# Altium integrated library Texas Instruments Interface I2C.IntLib: 424 symbols (part 23 of 23)
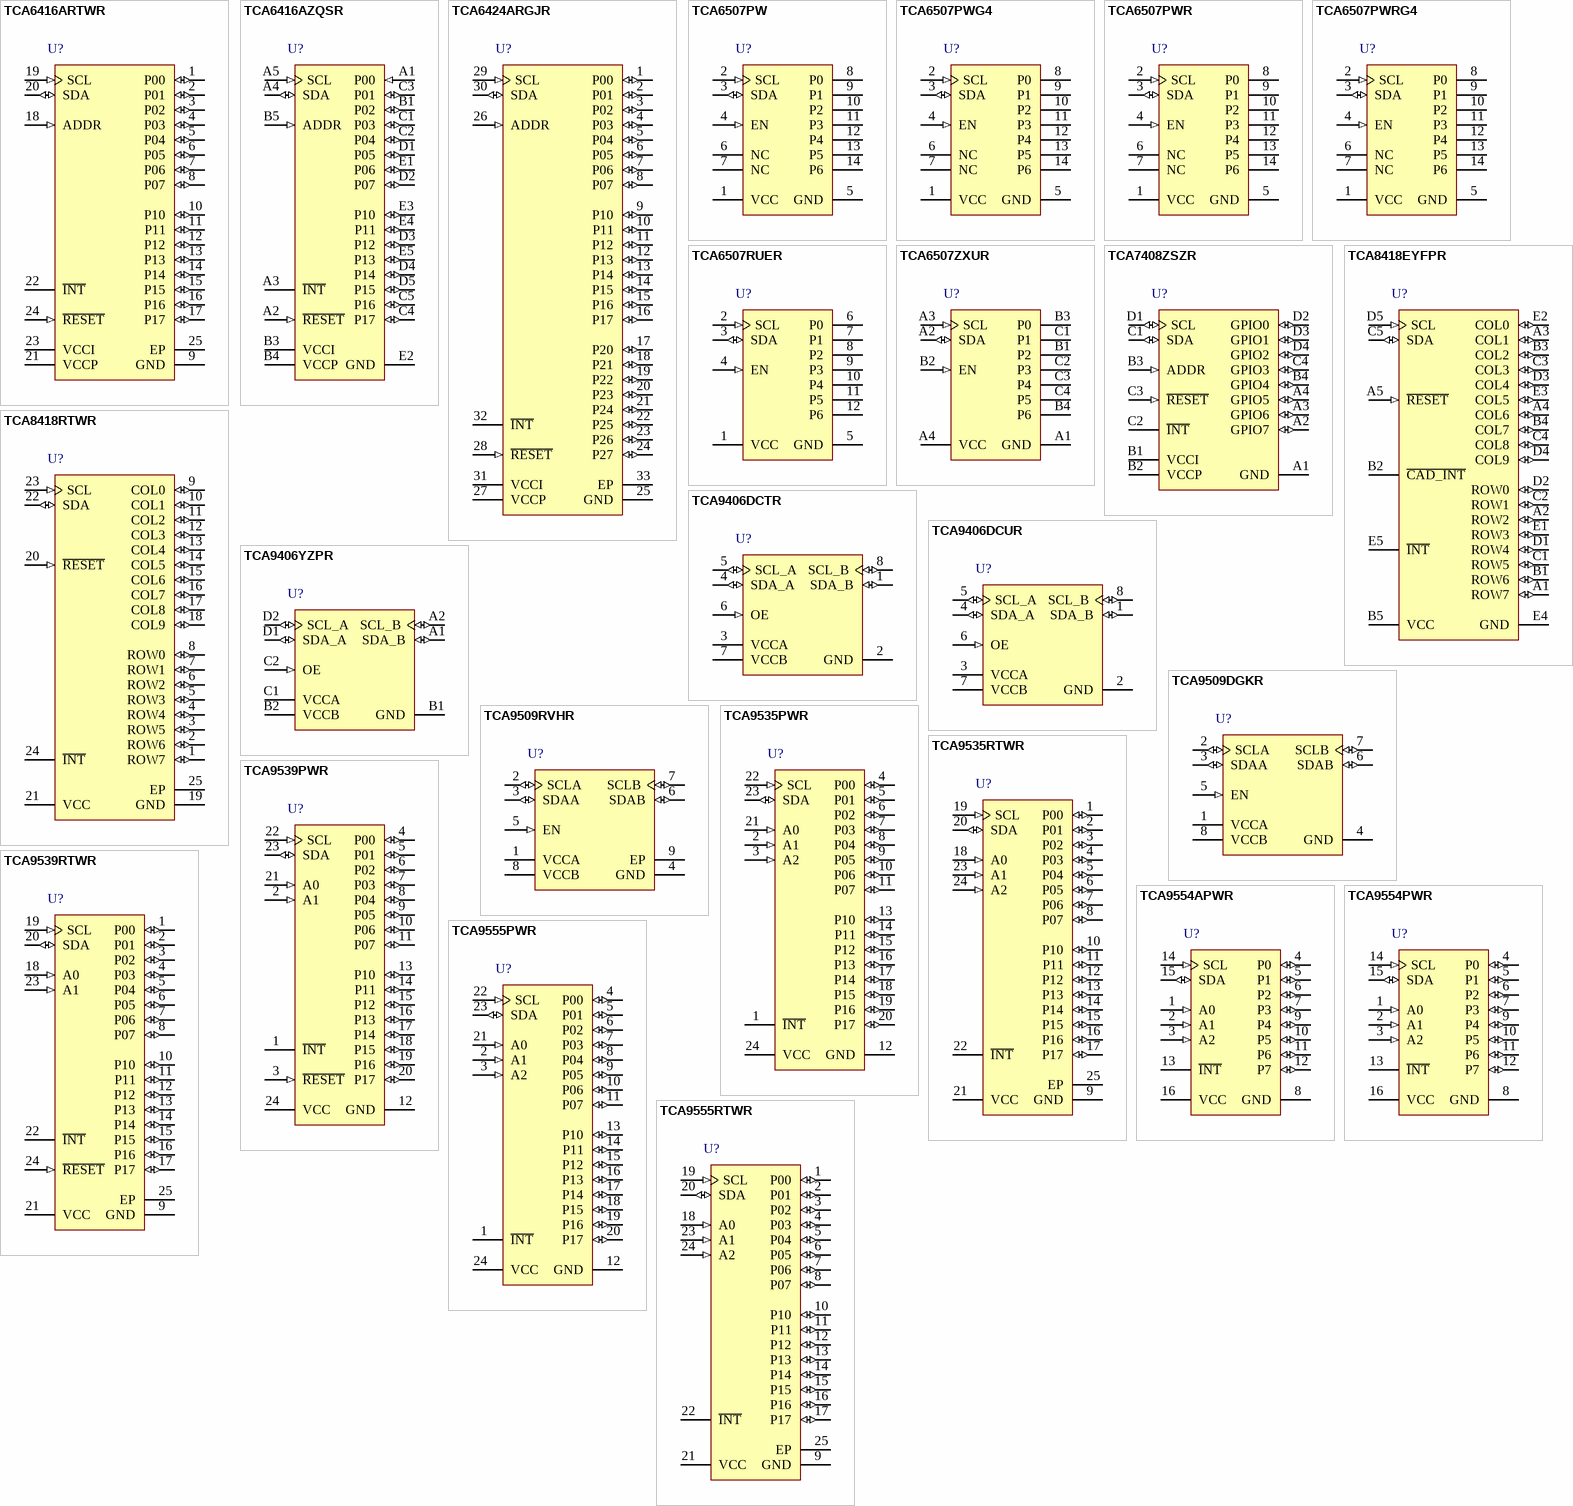
[diagram p35: symbols TCA6416ARTWR to TCA9555RTWR]

## TCA9509RVHR
designator U?
Level Translating I2C Bus Repeater, 2.7 to 5.5 V, -40 to 85 degC, 8-pin X2QFN (RVH), Green (RoHS & no Sb/Br); Manufacturer: Texas Instruments; PartNumber: TCA9509RVHR; SubFamily: I2C Hub, Buffer, Repeater; fSCLK(Max)(MHz): 0.4; VCC(Max)(V): 5.5; VCC(Min)(V): 2.7; Max Frequency(kHz): 400; Open Drain I/O Type: Yes; DatasheetVersion: SCPS225B; PackageVersion: revB, Jan-2011; PackageReference: RVH8-400X400TP; PackageDescription: 8-Pin Plastic Quad Flatpack No-Lead, 1.6 x 1.6 mm Body, 0.5 mm Pitch; Supplier 1: Digi-Key; Supplier Part Number 1: 296-29057-2-ND; Supplier 2: Digi-Key; Supplier Part Number 2: 296-29057-1-ND; Supplier 3: Digi-Key; Supplier Part Number 3: 296-29057-6-ND; Supplier 4: Farnell; Supplier Part Number 4: 1926947; Supplier 5: Newark; Supplier Part Number 5: 51T4809; Supplier 6: Newark; Supplier Part Number 6: 58T2293; Supplier 7: Mouser; Supplier Part Number 7: 595-TCA9509RVHR; Eco-Plan: Green (RoHS & no Sb/Br); Vcc range(V): 2.7 to 5.5; Master Side I2C Bus Capacitance Supported(pF): 400; Slave Side I2C Bus Capacitance Supported(pF): 400; Enable Pin: Yes; Mounting Technology: Surface Mount; Code_JEDEC: MO-255; ComponentLink1Description: Datasheet; ComponentLink1URL: http://www.ti.com/general/docs/lit/getliterature.tsp?genericPartNumber=TCA9509&fileType=pdf; ComponentLink2Description: Package Specification; ComponentLink2URL: http://www.ti.com/litv/pdf/mpds028d
footprint RVH8-400X400TP_V (PQFN, 8-Leads, Body 1.6x1.6mm, Pitch 0.5mm, Thermal Pad 0.4x0.4mm)
footprint RVH8-400X400TP_N (QFN, 8-Leads, Body 1.6x1.6mm, Pitch 0.5mm, Thermal Pad 0.4x0.4mm, IPC Medium Density)
footprint RVH8-400X400TP_L (QFN, 8-Leads, Body 1.6x1.6mm, Pitch 0.5mm, Thermal Pad 0.4x0.4mm, IPC High Density)
footprint RVH8-400X400TP_M (QFN, 8-Leads, Body 1.6x1.6mm, Pitch 0.5mm, Thermal Pad 0.4x0.4mm, IPC Low Density)
pins: 1 VCCA (power) "A-side supply voltage (0.9V to VCCB - 1V)", 2 SCLA (io) "Serial clock bus, A side.", 3 SDAA (io) "Serial data bus, A side.", 4 GND (power) "Supply ground", 5 EN (in) "Active-high repeater enable input", 6 SDAB (io) "Serial data bus, B side. Connect to VCCB through a pullup resistor.", 7 SCLB (io) "Serial clock bus, B side. Connect to VCCB through a pullup resistor.", 8 VCCB (power) "B-side and device supply voltage (2.7 V to 5.5 V)", 9 EP "Exposed Pad"

## TCA9535PWR
designator U?
Remote 16-Bit I2C and SMBus, Low-Power I/O Expander with Interrupt Output and Config Register, 1.65 to 5.5 V, -40 to 85 degC, 24-pin TSSOP (PW), Green (RoHS & no Sb/Br); Manufacturer: Texas Instruments; PartNumber: TCA9535PWR; SubFamily: I2C IO Expander; Interrupt Output: Yes; Max Frequency(kHz): 400; I2C Address: 0100 xxx; # of I/Os: 16; DatasheetVersion: SCPS201A; PackageVersion: revG, Feb-2011; PackageReference: PW24; PackageDescription: 24-Pin Thin Small Outline Package 0.65 mm Pitch; Supplier 1: Digi-Key; Supplier Part Number 1: 296-25129-2-ND; Supplier 2: Digi-Key; Supplier Part Number 2: 296-25129-1-ND; Supplier 3: Digi-Key; Supplier Part Number 3: 296-25129-6-ND; Supplier 4: Newark; Supplier Part Number 4: 50R7922; Supplier 5: Mouser; Supplier Part Number 5: 595-TCA9535PWR; Eco-Plan: Green (RoHS & no Sb/Br); Vcc range(V): 1.65 to 5.5; Low Power: Yes; Configuration Registers: Yes; 5V Tolerant I/O: Yes; Push-Pull I/O Type: Yes; Mounting Technology: Surface Mount; Code_JEDEC: MO-153; ComponentLink1Description: Datasheet; ComponentLink1URL: http://www.ti.com/general/docs/lit/getliterature.tsp?genericPartNumber=TCA9535&fileType=pdf; ComponentLink2Description: Package Specification; ComponentLink2URL: http://www.ti.com/litv/pdf/mpds177g
footprint PW24_N (TSOP, 24-Leads, Body 7.8x4.4mm, Pitch 0.65mm, IPC Medium Density)
footprint PW24_L (TSOP, 24-Leads, Body 7.8x4.4mm, Pitch 0.65mm, IPC High Density)
footprint PW24_M (TSOP, 24-Leads, Body 7.8x4.4mm, Pitch 0.65mm, IPC Low Density)
pins: 1 ~{INT} (oc) "Interrupt output. Connect to VCC through a pullup resistor.", 2 A1 (in) "Address input. Connect directly to VCC or ground.", 3 A2 (in) "Address input. Connect directly to VCC or ground.", 4 P00 (io) "P-port input/output. Push-pull design structure. At power-on,P0 is configured as an input.", 5 P01 (io) "P-port input/output. Push-pull design structure. At power-on,P1 is configured as an input.", 6 P02 (io) "P-port input/output. Push-pull design structure. At power-on,P2 is configured as an input.", 7 P03 (io) "P-port input/output. Push-pull design structure. At power-on,P3 is configured as an input.", 8 P04 (io) "P-port input/output. Push-pull design structure. At power-on,P4 is configured as an input.", 9 P05 (io) "P-port input/output. Push-pull design structure. At power-on,P5 is configured as an input.", 10 P06 (io) "P-port input/output. Push-pull design structure. At power-on,P6 is configured as an input.", 11 P07 (io) "P-port input/output. Push-pull design structure. At power-on,P7 is configured as an input.", 12 GND (power) "Ground", 13 P10 (io) "P-port input/output. Push-pull design structure. At power-on,P10 is configured as an input.", 14 P11 (io) "P-port input/output. Push-pull design structure. At power-on,P11 is configured as an input.", 15 P12 (io) "P-port input/output. Push-pull design structure. At power-on,P12 is configured as an input.", 16 P13 (io) "P-port input/output. Push-pull design structure. At power-on,P13 is configured as an input.", 17 P14 (io) "P-port input/output. Push-pull design structure. At power-on,P14 is configured as an input.", 18 P15 (io) "P-port input/output. Push-pull design structure. At power-on,P15 is configured as an input.", 19 P16 (io) "P-port input/output. Push-pull design structure. At power-on,P16 is configured as an input.", 20 P17 (io) "P-port input/output. Push-pull design structure. At power-on,P17 is configured as an input.", 21 A0 (in) "Address input. Connect directly to VCC or ground.", 22 SCL (in) "Serial clock bus. Connect to VCC through a pullup resistor.", 23 SDA (io) "Serial data bus. Connect to VCC through a pullup resistor.", 24 VCC (power) "Supply voltage"

## TCA9535RTWR
designator U?
Remote 16-Bit I2C and SMBus, Low-Power I/O Expander with Interrupt Output and Config Register, 1.65 to 5.5 V, -40 to 85 degC, 24-pin QFN (RTW), Green (RoHS & no Sb/Br); Manufacturer: Texas Instruments; PartNumber: TCA9535RTWR; SubFamily: I2C IO Expander; Interrupt Output: Yes; Max Frequency(kHz): 400; I2C Address: 0100 xxx; # of I/Os: 16; DatasheetVersion: SCPS201A; PackageVersion: Jul-2004; PackageReference: RTW24-2450X2450TP; PackageDescription: 24-Lead Plastic Quad FlatPack, No-Lead, 4x4x0.8mm Body [WQFN]; Supplier 1: Digi-Key; Supplier Part Number 1: 296-25156-2-ND; Supplier 2: Digi-Key; Supplier Part Number 2: 296-25156-1-ND; Supplier 3: Digi-Key; Supplier Part Number 3: 296-25156-6-ND; Supplier 4: Newark; Supplier Part Number 4: 50R7923; Supplier 5: Mouser; Supplier Part Number 5: 595-TCA9535RTWR; Eco-Plan: Green (RoHS & no Sb/Br); Vcc range(V): 1.65 to 5.5; Low Power: Yes; Configuration Registers: Yes; 5V Tolerant I/O: Yes; Push-Pull I/O Type: Yes; Mounting Technology: Surface Mount; Code_JEDEC: MO-220; ComponentLink1Description: Datasheet; ComponentLink1URL: http://www.ti.com/general/docs/lit/getliterature.tsp?genericPartNumber=TCA9535&fileType=pdf
footprint RTW24-2450X2450TP (QFN, 24-Leads, Body 4x4mm, Pitch 0.5mm, Thermal Pad 2.45x2.45mm, TI Recommended)
pins: 1 P00 (io) "P-port input/output. Push-pull design structure. At power-on, P00 is configured as an input.", 2 P01 (io) "P-port input/output. Push-pull design structure. At power-on, P01 is configured as an input.", 3 P02 (io) "P-port input/output. Push-pull design structure. At power-on, P02 is configured as an input.", 4 P03 (io) "P-port input/output. Push-pull design structure. At power-on, P03 is configured as an input.", 5 P04 (io) "P-port input/output. Push-pull design structure. At power-on, P04 is configured as an input.", 6 P05 (io) "P-port input/output. Push-pull design structure. At power-on, P05is configured as an input.", 7 P06 (io) "P-port input/output. Push-pull design structure. At power-on, P06 is configured as an input.", 8 P07 (io) "P-port input/output. Push-pull design structure. At power-on, P07 is configured as an input.", 9 GND (power) "Ground", 10 P10 (io) "P-port input/output. Push-pull design structure. At power-on, P10 is configured as an input.", 11 P11 (io) "P-port input/output. Push-pull design structure. At power-on, P11 is configured as an input.", 12 P12 (io) "P-port input/output. Push-pull design structure. At power-on, P12 is configured as an input.", 13 P13 (io) "P-port input/output. Push-pull design structure. At power-on, P13 is configured as an input.", 14 P14 (io) "P-port input/output. Push-pull design structure. At power-on, P14 is configured as an input.", 15 P15 (io) "P-port input/output. Push-pull design structure. At power-on, P15 is configured as an input.", 16 P16 (io) "P-port input/output. Push-pull design structure. At power-on, P16 is configured as an input.", 17 P17 (io) "P-port input/output. Push-pull design structure. At power-on, P17 is configured as an input.", 18 A0 (in) "Address input. Connect directly to VCC or ground.", 19 SCL (in) "Serial clock bus. Connect to VCC through a pullup resistor.", 20 SDA (io) "Serial data bus. Connect to VCC through a pullup resistor.", 21 VCC (power) "Supply voltage", 22 ~{INT} (oc) "Interrupt output. Connect to VCC through a pullup resistor.", 23 A1 (in) "Address input. Connect directly to VCC or ground.", 24 A2 (in) "Address input. Connect directly to VCC or ground.", 25 EP "Exposed thermal pad"

## TCA9539PWR
designator U?
Remote 16-Bit I2C and SMBus, Low-Power I/O Expander with Interrupt Output, Reset & Config. Register, 1.65 to 5.5 V, -40 to 85 degC, 24-pin TSSOP (PW), Green (RoHS & no Sb/Br); Manufacturer: Texas Instruments; PartNumber: TCA9539PWR; SubFamily: I2C IO Expander; Interrupt Output: Yes; Max Frequency(kHz): 400; I2C Address: 1110 1xx; # of I/Os: 16; DatasheetVersion: SCPS202A; PackageVersion: revG, Feb-2011; PackageReference: PW24; PackageDescription: 24-Pin Thin Small Outline Package 0.65 mm Pitch; Supplier 1: Digi-Key; Supplier Part Number 1: 296-25130-2-ND; Supplier 2: Digi-Key; Supplier Part Number 2: 296-25130-1-ND; Supplier 3: Digi-Key; Supplier Part Number 3: 296-25130-6-ND; Supplier 4: Newark; Supplier Part Number 4: 50R7924; Supplier 5: Mouser; Supplier Part Number 5: 595-TCA9539PWR; Eco-Plan: Green (RoHS & no Sb/Br); Reset Input: Yes; Vcc range(V): 1.65 to 5.5; Low Power: Yes; Configuration Registers: Yes; 5V Tolerant I/O: Yes; Push-Pull I/O Type: Yes; Mounting Technology: Surface Mount; Code_JEDEC: MO-153; ComponentLink1Description: Datasheet; ComponentLink1URL: http://www.ti.com/general/docs/lit/getliterature.tsp?genericPartNumber=TCA9539&fileType=pdf; ComponentLink2Description: Package Specification; ComponentLink2URL: http://www.ti.com/litv/pdf/mpds177g
footprint PW24_N (TSOP, 24-Leads, Body 7.8x4.4mm, Pitch 0.65mm, IPC Medium Density)
footprint PW24_L (TSOP, 24-Leads, Body 7.8x4.4mm, Pitch 0.65mm, IPC High Density)
footprint PW24_M (TSOP, 24-Leads, Body 7.8x4.4mm, Pitch 0.65mm, IPC Low Density)
pins: 1 ~{INT} (oc) "Interrupt output. Connect to VCC through a pullup resistor.", 2 A1 (in) "Address input. Connect directly to VCC or ground.", 3 ~{RESET} (in) "Active-low reset input. Connect to VCC  through a pullup resistor, if no active connection is used.", 4 P00 (io) "P-port input/output. Push-pull design structure. At power-on, P00 is configured as an input.", 5 P01 (io) "P-port input/output. Push-pull design structure. At power-on, P01 is configured as an input.", 6 P02 (io) "P-port input/output. Push-pull design structure. At power-on, P02 is configured as an input.", 7 P03 (io) "P-port input/output. Push-pull design structure. At power-on, P03 is configured as an input.", 8 P04 (io) "P-port input/output. Push-pull design structure. At power-on, P04 is configured as an input.", 9 P05 (io) "P-port input/output. Push-pull design structure. At power-on, P05is configured as an input.", 10 P06 (io) "P-port input/output. Push-pull design structure. At power-on, P06 is configured as an input.", 11 P07 (io) "P-port input/output. Push-pull design structure. At power-on, P07 is configured as an input.", 12 GND (power) "Ground", 13 P10 (io) "P-port input/output. Push-pull design structure. At power-on, P10 is configured as an input.", 14 P11 (io) "P-port input/output. Push-pull design structure. At power-on, P11 is configured as an input.", 15 P12 (io) "P-port input/output. Push-pull design structure. At power-on, P12 is configured as an input.", 16 P13 (io) "P-port input/output. Push-pull design structure. At power-on, P13 is configured as an input.", 17 P14 (io) "P-port input/output. Push-pull design structure. At power-on, P14 is configured as an input.", 18 P15 (io) "P-port input/output. Push-pull design structure. At power-on, P15 is configured as an input.", 19 P16 (io) "P-port input/output. Push-pull design structure. At power-on, P16 is configured as an input.", 20 P17 (io) "P-port input/output. Push-pull design structure. At power-on, P17 is configured as an input.", 21 A0 (in) "Address input. Connect directly to VCC or ground.", 22 SCL (in) "Serial clock bus. Connect to VCC through a pullup resistor.", 23 SDA (io) "Serial data bus. Connect to VCC through a pullup resistor.", 24 VCC (power) "Supply voltage"

## TCA9539RTWR
designator U?
Remote 16-Bit I2C and SMBus, Low-Power I/O Expander with Interrupt Output, Reset & Config. Register, 1.65 to 5.5 V, -40 to 85 degC, 24-pin QFN (RTW), Green (RoHS & no Sb/Br); Manufacturer: Texas Instruments; PartNumber: TCA9539RTWR; SubFamily: I2C IO Expander; Interrupt Output: Yes; Max Frequency(kHz): 400; I2C Address: 1110 1xx; # of I/Os: 16; DatasheetVersion: SCPS202A; PackageVersion: Jul-2004; PackageReference: RTW24-2450X2450TP; PackageDescription: 24-Lead Plastic Quad FlatPack, No-Lead, 4x4x0.8mm Body [WQFN]; Supplier 1: Digi-Key; Supplier Part Number 1: 296-25157-2-ND; Supplier 2: Digi-Key; Supplier Part Number 2: 296-25157-1-ND; Supplier 3: Digi-Key; Supplier Part Number 3: 296-25157-6-ND; Supplier 4: Newark; Supplier Part Number 4: 50R7925; Supplier 5: Mouser; Supplier Part Number 5: 595-TCA9539RTWR; Eco-Plan: Green (RoHS & no Sb/Br); Reset Input: Yes; Vcc range(V): 1.65 to 5.5; Low Power: Yes; Configuration Registers: Yes; 5V Tolerant I/O: Yes; Push-Pull I/O Type: Yes; Mounting Technology: Surface Mount; Code_JEDEC: MO-220; ComponentLink1Description: Datasheet; ComponentLink1URL: http://www.ti.com/general/docs/lit/getliterature.tsp?genericPartNumber=TCA9539&fileType=pdf
footprint RTW24-2450X2450TP (QFN, 24-Leads, Body 4x4mm, Pitch 0.5mm, Thermal Pad 2.45x2.45mm, TI Recommended)
pins: 1 P00 (io) "P-port input/output. Push-pull design structure. At power-on, P00 is configured as an input.", 2 P01 (io) "P-port input/output. Push-pull design structure. At power-on, P01 is configured as an input.", 3 P02 (io) "P-port input/output. Push-pull design structure. At power-on, P02 is configured as an input.", 4 P03 (io) "P-port input/output. Push-pull design structure. At power-on, P03 is configured as an input.", 5 P04 (io) "P-port input/output. Push-pull design structure. At power-on, P04 is configured as an input.", 6 P05 (io) "P-port input/output. Push-pull design structure. At power-on, P05is configured as an input.", 7 P06 (io) "P-port input/output. Push-pull design structure. At power-on, P06 is configured as an input.", 8 P07 (io) "P-port input/output. Push-pull design structure. At power-on, P07 is configured as an input.", 9 GND (power) "Ground", 10 P10 (io) "P-port input/output. Push-pull design structure. At power-on, P10 is configured as an input.", 11 P11 (io) "P-port input/output. Push-pull design structure. At power-on, P11 is configured as an input.", 12 P12 (io) "P-port input/output. Push-pull design structure. At power-on, P12 is configured as an input.", 13 P13 (io) "P-port input/output. Push-pull design structure. At power-on, P13 is configured as an input.", 14 P14 (io) "P-port input/output. Push-pull design structure. At power-on, P14 is configured as an input.", 15 P15 (io) "P-port input/output. Push-pull design structure. At power-on, P15 is configured as an input.", 16 P16 (io) "P-port input/output. Push-pull design structure. At power-on, P16 is configured as an input.", 17 P17 (io) "P-port input/output. Push-pull design structure. At power-on, P17 is configured as an input.", 18 A0 (in) "Address input. Connect directly to VCC or ground.", 19 SCL (in) "Serial clock bus. Connect to VCC through a pullup resistor.", 20 SDA (io) "Serial data bus. Connect to VCC through a pullup resistor.", 21 VCC (power) "Supply voltage", 22 ~{INT} (oc) "Interrupt output. Connect to VCC through a pullup resistor.", 23 A1 (in) "Address input. Connect directly to VCC or ground.", 24 ~{RESET} (in) "Active-low reset input. Connect to VCC  through a pullup resistor, if no active connection is used.", 25 EP "Exposed thermal pad"

## TCA9554APWR
designator U?
Remote 8-Bit I2C and SMBus I/O Expander, 8 Outputs, 1.65 to 5.5 V, -40 to 85 degC, 16-pin TSSOP (PW), Green (RoHS & no Sb/Br); Manufacturer: Texas Instruments; PartNumber: TCA9554APWR; SubFamily: I2C IO Expander; No. of Outputs: 24; Interrupt Output: Yes; VCC(Min)(V): 1.65; VCC(Max)(V): 5.5; Max Frequency(kHz): 400; I2C Address: 0100 01x; DatasheetVersion: SCPS196; PackageVersion: revG, Feb-2011; PackageReference: PW16; PackageDescription: 16-Pin Plastic Thin Small Outline Package 5 x 4.4 mm Body ,0.65 mm Pitch; Supplier 1: Digi-Key; Supplier Part Number 1: 296-28120-2-ND; Supplier 2: Digi-Key; Supplier Part Number 2: 296-28120-1-ND; Supplier 3: Digi-Key; Supplier Part Number 3: 296-28120-6-ND; Supplier 4: Farnell; Supplier Part Number 4: 1864892; Supplier 5: Newark; Supplier Part Number 5: 25T0268; Supplier 6: Mouser; Supplier Part Number 6: 595-TCA9554APWR; Eco-Plan: Green (RoHS & no Sb/Br); Reset Input: Yes; # of I/Os: 24; Vcc range(V): 1.65 to 5.5; Low Power: Yes; Configuration Registers: Yes; 5V Tolerant I/O: Yes; Mounting Technology: Surface Mount; Code_JEDEC: MO-153; ComponentLink1Description: Datasheet; ComponentLink1URL: http://www.ti.com/general/docs/lit/getliterature.tsp?genericPartNumber=TCA9554A&fileType=pdf
footprint PW16_N (TSOP, 16-Leads, Body 5x4.4mm, Pitch 0.65mm, IPC Medium Density)
footprint PW16_L (TSOP, 16-Leads, Body 5x4.4mm, Pitch 0.65mm, IPC High Density)
footprint PW16_M (TSOP, 16-Leads, Body 5x4.4mm, Pitch 0.65mm, IPC Low Density)
pins: 1 A0 (in) "Address input. Connect directly to VCC or ground.", 2 A1 (in) "Address input. Connect directly to VCC or ground.", 3 A2 (in) "Address input. Connect directly to VCC or ground.", 4 P0 (io) "P-port input/output. Push-pull design structure. At power-on, P0 is configured as an input.", 5 P1 (io) "P-port input/output. Push-pull design structure. At power-on, P1 is  configured as an input.", 6 P2 (io) "P-port input/output. Push-pull design structure. At power-on, P2 is  configured as an input.", 7 P3 (io) "P-port input/output. Push-pull design structure. At power-on, P3is  configured as an input.", 8 GND (power) "Ground", 9 P4 (io) "P-port input/output. Push-pull design structure. At power-on, P4 is  configured as an input.", 10 P5 (io) "P-port input/output. Push-pull design structure. At power-on, P5 is  configured as an input.", 11 P6 (io) "P-port input/output. Push-pull design structure. At power-on, P6 is  configured as an input.", 12 P7 (io) "P-port input/output. Push-pull design structure. At power-on, P7 is  configured as an input.", 13 ~{INT} (oc) "Interrupt output. Connect to VCC through a pullup resistor.", 14 SCL (in) "Serial clock bus. Connect to VCC  through a pullup resistor.", 15 SDA (io) "Serial data  bus. Connect to VCC  through a pullup resistor.", 16 VCC (power) "Supply voltage"

## TCA9554PWR
designator U?
Remote 8-Bit I2C and SMBus I/O Expander, 1.65 to 5.5 V, -40 to 85 degC, 16-pin TSSOP (PW), Green (RoHS & no Sb/Br); Manufacturer: Texas Instruments; PartNumber: TCA9554PWR; SubFamily: I2C IO Expander; Interrupt Output: Yes; fSCLK(Max)(MHz): 401; VCC(Min)(V): 1.65; VCC(Max)(V): 5.5; Max Frequency(kHz): 400; I2C Address: 0100xxx; # of I/Os: 8; DatasheetVersion: SCPS233; PackageVersion: revG, Feb-2011; PackageReference: PW16; PackageDescription: 16-Pin Plastic Thin Small Outline Package 5 x 4.4 mm Body ,0.65 mm Pitch; Supplier 1: Digi-Key; Supplier Part Number 1: 296-30135-2-ND; Supplier 2: Digi-Key; Supplier Part Number 2: 296-30135-1-ND; Supplier 3: Digi-Key; Supplier Part Number 3: 296-30135-6-ND; Supplier 4: Newark; Supplier Part Number 4: 76T8038; Supplier 5: Mouser; Supplier Part Number 5: 595-TCA9554PWR; Eco-Plan: Green (RoHS & no Sb/Br); Vcc range(V): 1.65 to 5.5; Low Power: Yes; Configuration Registers: Yes; 5V Tolerant I/O: Yes; Mounting Technology: Surface Mount; Code_JEDEC: MO-153; ComponentLink1Description: Datasheet; ComponentLink1URL: http://www.ti.com/general/docs/lit/getliterature.tsp?genericPartNumber=TCA9554&fileType=pdf
footprint PW16_N (TSOP, 16-Leads, Body 5x4.4mm, Pitch 0.65mm, IPC Medium Density)
footprint PW16_L (TSOP, 16-Leads, Body 5x4.4mm, Pitch 0.65mm, IPC High Density)
footprint PW16_M (TSOP, 16-Leads, Body 5x4.4mm, Pitch 0.65mm, IPC Low Density)
pins: 1 A0 (in) "Address input. Connect directly to VCC or ground.", 2 A1 (in) "Address input. Connect directly to VCC or ground.", 3 A2 (in) "Address input. Connect directly to VCC or ground.", 4 P0 (io) "P-port input/output. Push-pull design structure. At power-on, P0 is configured as an input.", 5 P1 (io) "P-port input/output. Push-pull design structure. At power-on, P1 is configured as an input.", 6 P2 (io) "P-port input/output. Push-pull design structure. At power-on, P2 is configured as an input.", 7 P3 (io) "P-port input/output. Push-pull design structure. At power-on, P3 is configured as an input.", 8 GND (power) "Ground.", 9 P4 (io) "P-port input/output. Push-pull design structure. At power-on, P4 is configured as an input.", 10 P5 (io) "P-port input/output. Push-pull design structure. At power-on, P5 is configured as an input.", 11 P6 (io) "P-port input/output. Push-pull design structure. At power-on, P6 is configured as an input.", 12 P7 (io) "P-port input/output. Push-pull design structure. At power-on, P7 is configured as an input.", 13 ~{INT} (oc) "Interrupt output. Connect to VCC through a pullup resistor.", 14 SCL (in) "Serial clock bus. Connect to VCC through a pullup resistor.", 15 SDA (io) "Serial data bus. Connect to VCC through a pullup resistor.", 16 VCC (power) "Supply voltage."

## TCA9555PWR
designator U?
Remote 16-Bit I2C and SMBus I/O Expander with Interrupt Output and Configuration Registers, 1.65 to 5.5 V, -40 to 85 degC, 24-pin TSSOP (PW), Green (RoHS & no Sb/Br); Manufacturer: Texas Instruments; PartNumber: TCA9555PWR; SubFamily: I2C IO Expander; Interrupt Output: Yes; Max Frequency(kHz): 400; I2C Address: 0100 xxx; # of I/Os: 16; DatasheetVersion: SCPS200A; PackageVersion: revG, Feb-2011; PackageReference: PW24; PackageDescription: 24-Pin Thin Small Outline Package 0.65 mm Pitch; Supplier 1: Digi-Key; Supplier Part Number 1: 296-24827-2-ND; Supplier 2: Digi-Key; Supplier Part Number 2: 296-24827-1-ND; Supplier 3: Digi-Key; Supplier Part Number 3: 296-24827-6-ND; Supplier 4: Newark; Supplier Part Number 4: 24R9978; Supplier 5: Mouser; Supplier Part Number 5: 595-TCA9555PWR; Eco-Plan: Green (RoHS & no Sb/Br); Vcc range(V): 1.65 to 5.5; Configuration Registers: Yes; 5V Tolerant I/O: Yes; Push-Pull I/O Type: Yes; Mounting Technology: Surface Mount; Code_JEDEC: MO-153; ComponentLink1Description: Datasheet; ComponentLink1URL: http://www.ti.com/general/docs/lit/getliterature.tsp?genericPartNumber=TCA9555&fileType=pdf; ComponentLink2Description: Package Specification; ComponentLink2URL: http://www.ti.com/litv/pdf/mpds177g
footprint PW24_N (TSOP, 24-Leads, Body 7.8x4.4mm, Pitch 0.65mm, IPC Medium Density)
footprint PW24_L (TSOP, 24-Leads, Body 7.8x4.4mm, Pitch 0.65mm, IPC High Density)
footprint PW24_M (TSOP, 24-Leads, Body 7.8x4.4mm, Pitch 0.65mm, IPC Low Density)
pins: 1 ~{INT} (oc) "Interrupt output. Connect to VCC through a pullup resistor.", 2 A1 (in) "Address input 1. Connect directly to VCC or ground.", 3 A2 (in) "Address input 2.  Connect directly to VCC or ground.", 4 P00 (io) "P-port input/output. Push-pull design structure. At power-on, P00 is configured as an input.", 5 P01 (io) "P-port input/output. Push-pull design structure. At power-on, P01 is configured as an input.", 6 P02 (io) "P-port input/output. Push-pull design structure. At power-on, P02 is configured as an input.", 7 P03 (io) "P-port input/output. Push-pull design structure. At power-on, P03 is configured as an input.", 8 P04 (io) "P-port input/output. Push-pull design structure. At power-on, P04 is configured as an input.", 9 P05 (io) "P-port input/output. Push-pull design structure. At power-on, P05is configured as an input.", 10 P06 (io) "P-port input/output. Push-pull design structure. At power-on, P06 is configured as an input.", 11 P07 (io) "P-port input/output. Push-pull design structure. At power-on, P07 is configured as an input.", 12 GND (power) "Ground", 13 P10 (io) "P-port input/output. Push-pull design structure. At power-on, P10 is configured as an input.", 14 P11 (io) "P-port input/output. Push-pull design structure. At power-on, P11 is configured as an input.", 15 P12 (io) "P-port input/output. Push-pull design structure. At power-on, P12 is configured as an input.", 16 P13 (io) "P-port input/output. Push-pull design structure. At power-on, P13 is configured as an input.", 17 P14 (io) "P-port input/output. Push-pull design structure. At power-on, P14 is configured as an input.", 18 P15 (io) "P-port input/output. Push-pull design structure. At power-on, P15 is configured as an input.", 19 P16 (io) "P-port input/output. Push-pull design structure. At power-on, P16 is configured as an input.", 20 P17 (io) "P-port input/output. Push-pull design structure. At power-on, P17 is configured as an input.", 21 A0 (in) "Address input 0. Connect directly to VCC or ground.", 22 SCL (in) "Serial clock bus. Connect to VCC through a pullup resistor.", 23 SDA (io) "Serial data bus. Connect to VCC through a pullup resistor.", 24 VCC (power) "Supply voltage"

## TCA9555RTWR
designator U?
Remote 16-Bit I2C and SMBus I/O Expander with Interrupt Output and Configuration Registers, 1.65 to 5.5 V, -40 to 85 degC, 24-pin QFN (RTW), Green (RoHS & no Sb/Br); Manufacturer: Texas Instruments; PartNumber: TCA9555RTWR; SubFamily: I2C IO Expander; Interrupt Output: Yes; Max Frequency(kHz): 400; I2C Address: 0100 xxx; # of I/Os: 16; DatasheetVersion: SCPS200A; PackageVersion: Jul-2004; PackageReference: RTW24-2450X2450TP; PackageDescription: 24-Lead Plastic Quad FlatPack, No-Lead, 4x4x0.8mm Body [WQFN]; Supplier 1: Digi-Key; Supplier Part Number 1: 296-24857-2-ND; Supplier 2: Digi-Key; Supplier Part Number 2: 296-24857-1-ND; Supplier 3: Digi-Key; Supplier Part Number 3: 296-24857-6-ND; Supplier 4: Newark; Supplier Part Number 4: 24R9979; Supplier 5: Mouser; Supplier Part Number 5: 595-TCA9555RTWR; Eco-Plan: Green (RoHS & no Sb/Br); Vcc range(V): 1.65 to 5.5; Configuration Registers: Yes; 5V Tolerant I/O: Yes; Push-Pull I/O Type: Yes; Mounting Technology: Surface Mount; Code_JEDEC: MO-220; ComponentLink1Description: Datasheet; ComponentLink1URL: http://www.ti.com/general/docs/lit/getliterature.tsp?genericPartNumber=TCA9555&fileType=pdf
footprint RTW24-2450X2450TP (QFN, 24-Leads, Body 4x4mm, Pitch 0.5mm, Thermal Pad 2.45x2.45mm, TI Recommended)
pins: 1 P00 (io) "P-port input/output. Push-pull design structure. At power-on, P00 is configured as an input.", 2 P01 (io) "P-port input/output. Push-pull design structure. At power-on, P01 is configured as an input.", 3 P02 (io) "P-port input/output. Push-pull design structure. At power-on, P02 is configured as an input.", 4 P03 (io) "P-port input/output. Push-pull design structure. At power-on, P03 is configured as an input.", 5 P04 (io) "P-port input/output. Push-pull design structure. At power-on, P04 is configured as an input.", 6 P05 (io) "P-port input/output. Push-pull design structure. At power-on, P05is configured as an input.", 7 P06 (io) "P-port input/output. Push-pull design structure. At power-on, P06 is configured as an input.", 8 P07 (io) "P-port input/output. Push-pull design structure. At power-on, P07 is configured as an input.", 9 GND (power) "Ground", 10 P10 (io) "P-port input/output. Push-pull design structure. At power-on, P10 is configured as an input.", 11 P11 (io) "P-port input/output. Push-pull design structure. At power-on, P11 is configured as an input.", 12 P12 (io) "P-port input/output. Push-pull design structure. At power-on, P12 is configured as an input.", 13 P13 (io) "P-port input/output. Push-pull design structure. At power-on, P13 is configured as an input.", 14 P14 (io) "P-port input/output. Push-pull design structure. At power-on, P14 is configured as an input.", 15 P15 (io) "P-port input/output. Push-pull design structure. At power-on, P15 is configured as an input.", 16 P16 (io) "P-port input/output. Push-pull design structure. At power-on, P16 is configured as an input.", 17 P17 (io) "P-port input/output. Push-pull design structure. At power-on, P17 is configured as an input.", 18 A0 (in) "Address input 0. Connect directly to VCC or ground.", 19 SCL (in) "Serial clock bus. Connect to VCC through a pullup resistor.", 20 SDA (io) "Serial data bus. Connect to VCC through a pullup resistor.", 21 VCC (power) "Supply voltage", 22 ~{INT} (oc) "Interrupt output. Connect to VCC through a pullup resistor.", 23 A1 (in) "Address input 1. Connect directly to VCC or ground.", 24 A2 (in) "Address input 2.  Connect directly to VCC or ground.", 25 EP "Exposed thermal pad"